# Altium footprint library Res_Vishay_CRCW0603523RFKEA_523Ohm.PcbLib: 1 footprints
Each footprint in its own frame and in the unit in brackets; x right, y up, seen from the top. Pads: shape width x height; smd on the part's side, far side on the other; paste and mask are expansions set on the pad; w line width, h text height; cw(c..) or ccw(c..) is an arc to the next point about the centre after c.
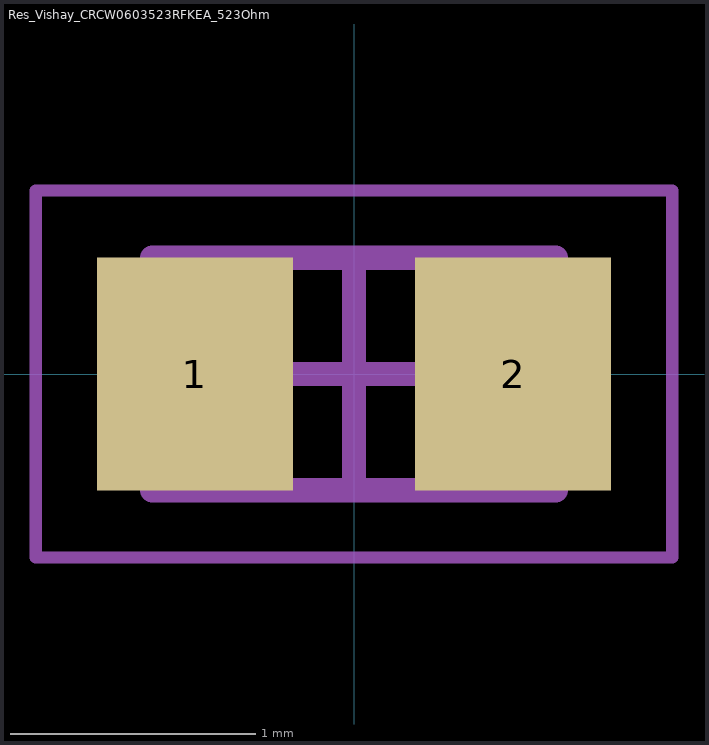
[diagram p0: the footprint, top view; thin cyan lines are the x and y axes]

## Res_Vishay_CRCW0603523RFKEA_523Ohm [mm]
height 0.5
pads (2):
  rect 0.8x0.95 smd: 1(-0.65,0) 2(0.65,0)
Mechanical 13:
  lines w0.1: -0.825,-0.475 0.825,-0.475 0.825,0.475 -0.825,0.475 -0.825,-0.475
Mechanical 15:
  lines w0.05: -1.3,-0.75 1.3,-0.75 1.3,0.75 -1.3,0.75 -1.3,-0.75
  lines w0.1: -0.475,0 0.475,0 ; 0,-0.475 0,0.475
3D body "Chip2PinSM127P600-8N.step": height 0.5, standoff 0, extent -0.825,-0.475 0.825,0.475